# EAGLE library part MCM6709A (library memory-sram)
MEMORY
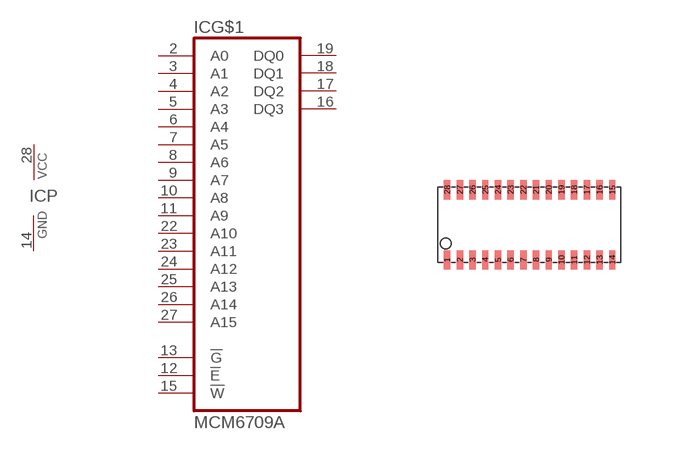
[diagram p26: symbol with the pads of SOJ28/3; footprint SOJ28/3]

Designator prefix IC; gates G$1=CM6709A P=PWRN

## MCM6709A  [SOJ28/3]
2  G$1:A0  in
3  G$1:A1  in
4  G$1:A2  in
5  G$1:A3  in
6  G$1:A4  in
7  G$1:A5  in
8  G$1:A6  in
9  G$1:A7  in
10  G$1:A8  in
11  G$1:A9  in
12  G$1:!E  in
13  G$1:!G  in
14  P:GND  pwr
15  G$1:!W  in
16  G$1:DQ3
17  G$1:DQ2
18  G$1:DQ1
19  G$1:DQ0
22  G$1:A10  in
23  G$1:A11  in
24  G$1:A12  in
25  G$1:A13  in
26  G$1:A14  in
27  G$1:A15  in
28  P:VCC  pwr

## Footprint SOJ28/3 (pad centres in mm)
Small Outline J-Bend
smd 0.159 x 0.476: 1 -2.064,-0.876; 2 -1.746,-0.876; 3 -1.429,-0.876; 4 -1.111,-0.876; 5 -0.794,-0.876; 6 -0.476,-0.876; 7 -0.159,-0.876; 8 0.159,-0.876; 9 0.476,-0.876; 10 0.794,-0.876; 11 1.111,-0.876; 12 1.429,-0.876; 13 1.746,-0.876; 14 2.064,-0.876; 15 2.064,0.876; 16 1.746,0.876; 17 1.429,0.876; 18 1.111,0.876; 19 0.794,0.876; 20 0.476,0.876; 21 0.159,0.876; 22 -0.159,0.876; 23 -0.476,0.876; 24 -0.794,0.876; 25 -1.111,0.876; 26 -1.429,0.876; 27 -1.746,0.876; 28 -2.064,0.876